# Altium footprint library Connectors_2mm.PcbLib: 81 footprints (part 5 of 6)
Each footprint in its own frame and in the unit in brackets; x right, y up, seen from the top. Pads: shape width x height; smd on the part's side, far side on the other; paste and mask are expansions set on the pad; w line width, h text height; cw(c..) or ccw(c..) is an arc to the next point about the centre after c.
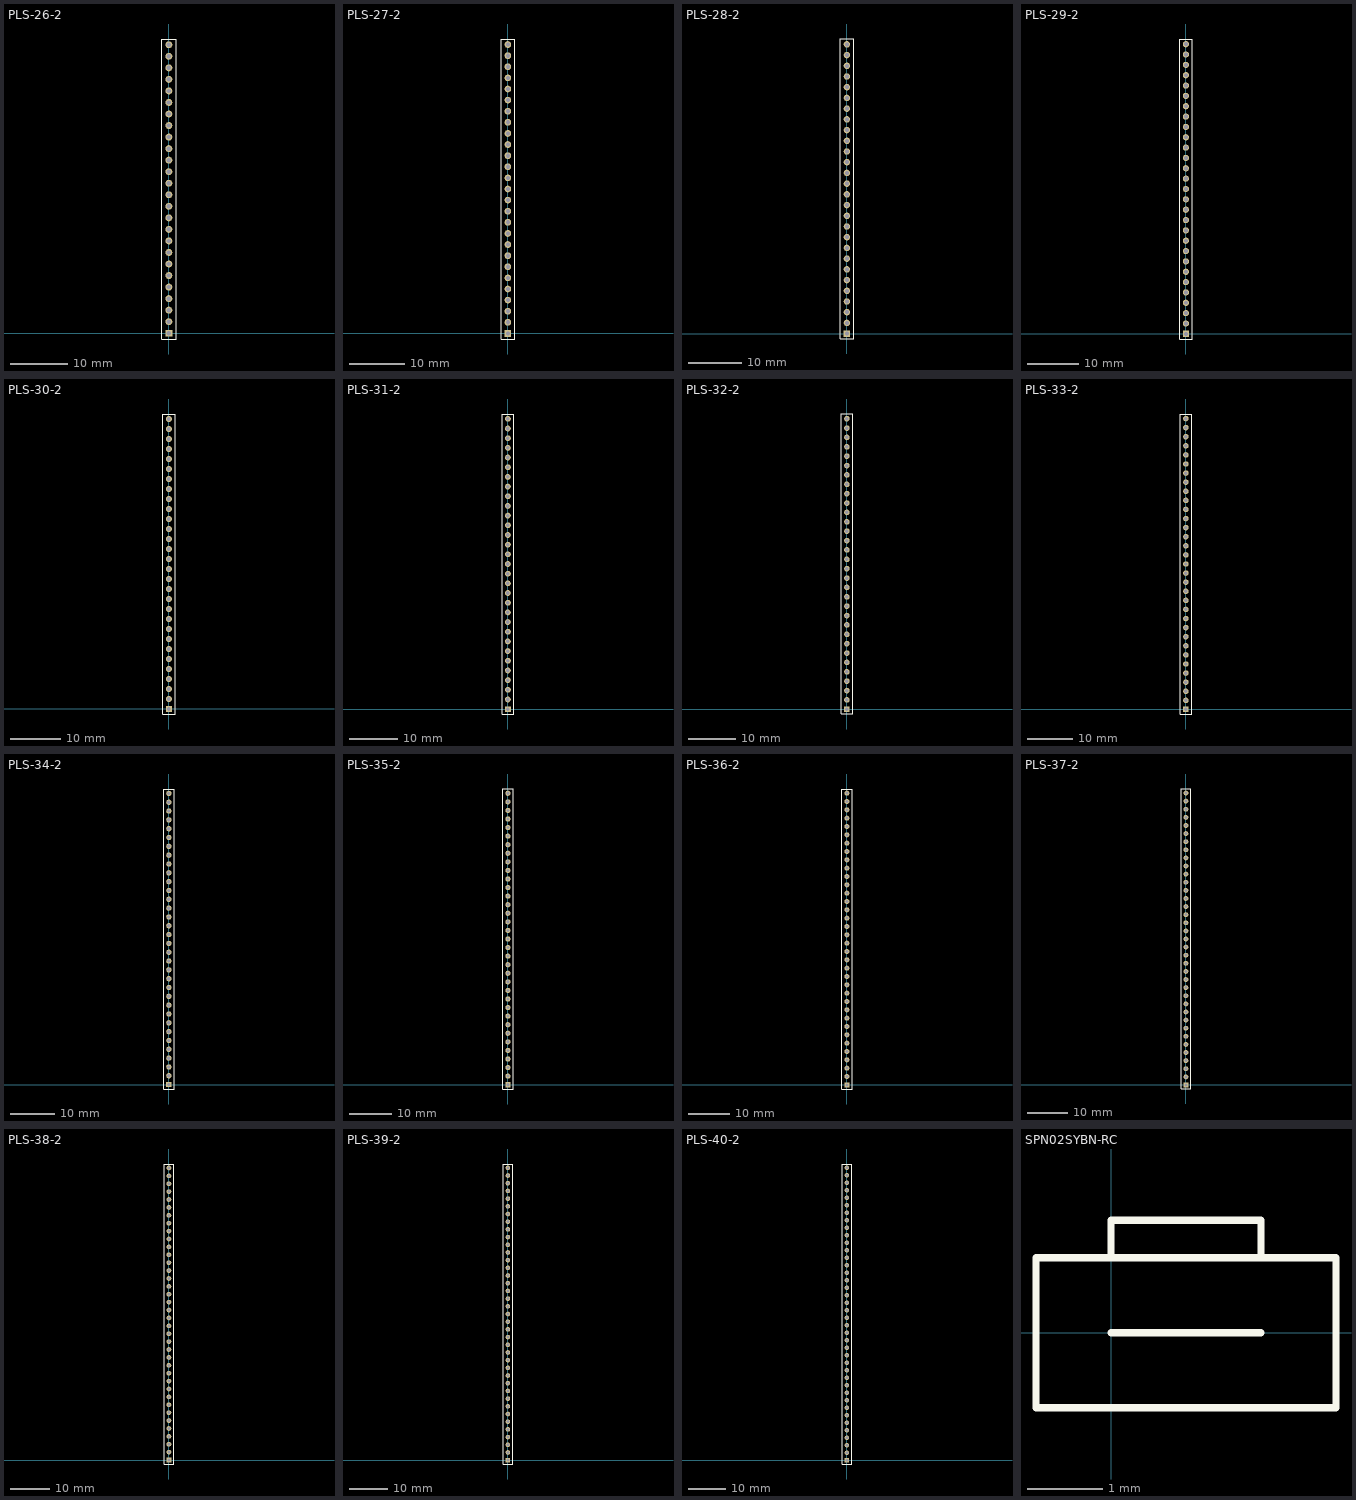
[diagram p4: the footprints below, top view; thin cyan lines are the x and y axes]

## PLS-26-2 [mm] "Connector; Header; 1x26 Position"
height 6
pads (26):
  rect 1.2x1.2 hole 0.75: 1(0,0)
  round 1.2 hole 0.75: 2(0,2) 3(0,4) 4(0,6) 5(0,8)
  round 1.2 hole 0.75 unplated: 6(0,10) 7(0,12) 8(0,14) 9(0,16) 10(0,18) 11(0,20) 12(0,22) 13(0,24) 14(0,26) 15(0,28) 16(0,30) 17(0,32) 18(0,34) 19(0,36) 20(0,38) 21(0,40) 22(0,42) 23(0,44) 24(0,46) 25(0,48) 26(0,50)
Top Overlay:
  lines w0.2: -1.2,-1 -1.2,51 1.25,51 1.25,-1 -1.2,-1
3D body "pls-2mm.stp": height 5.5, standoff -2.5, extent -1.2,49 1.2,51
3D body "pls-2mm.stp": height 5.5, standoff -2.5, extent -1.2,47 1.2,49
3D body "pls-2mm.stp": height 5.5, standoff -2.5, extent -1.2,45 1.2,47
3D body "pls-2mm.stp": height 5.5, standoff -2.5, extent -1.2,43 1.2,45
3D body "pls-2mm.stp": height 5.5, standoff -2.5, extent -1.2,41 1.2,43
3D body "pls-2mm.stp": height 5.5, standoff -2.5, extent -1.2,39 1.2,41
3D body "pls-2mm.stp": height 5.5, standoff -2.5, extent -1.2,37 1.2,39
3D body "pls-2mm.stp": height 5.5, standoff -2.5, extent -1.2,35 1.2,37
3D body "pls-2mm.stp": height 5.5, standoff -2.5, extent -1.2,33 1.2,35
3D body "pls-2mm.stp": height 5.5, standoff -2.5, extent -1.2,31 1.2,33
3D body "pls-2mm.stp": height 5.5, standoff -2.5, extent -1.2,29 1.2,31
3D body "pls-2mm.stp": height 5.5, standoff -2.5, extent -1.2,27 1.2,29
3D body "pls-2mm.stp": height 5.5, standoff -2.5, extent -1.2,25 1.2,27
3D body "pls-2mm.stp": height 5.5, standoff -2.5, extent -1.2,23 1.2,25
3D body "pls-2mm.stp": height 5.5, standoff -2.5, extent -1.2,21 1.2,23
3D body "pls-2mm.stp": height 5.5, standoff -2.5, extent -1.2,19 1.2,21
3D body "pls-2mm.stp": height 5.5, standoff -2.5, extent -1.2,17 1.2,19
3D body "pls-2mm.stp": height 5.5, standoff -2.5, extent -1.2,15 1.2,17
3D body "pls-2mm.stp": height 5.5, standoff -2.5, extent -1.2,13 1.2,15
3D body "pls-2mm.stp": height 5.5, standoff -2.5, extent -1.2,11 1.2,13
3D body "pls-2mm.stp": height 5.5, standoff -2.5, extent -1.2,9 1.2,11
3D body "pls-2mm.stp": height 5.5, standoff -2.5, extent -1.2,-1 1.2,1
3D body "pls-2mm.stp": height 5.5, standoff -2.5, extent -1.2,1 1.2,3
3D body "pls-2mm.stp": height 5.5, standoff -2.5, extent -1.2,3 1.2,5
3D body "pls-2mm.stp": height 5.5, standoff -2.5, extent -1.2,5 1.2,7
3D body "pls-2mm.stp": height 5.5, standoff -2.5, extent -1.2,7 1.2,9

## PLS-27-2 [mm] "Connector; Header; 1x27 Position"
height 6
pads (27):
  rect 1.2x1.2 hole 0.75: 1(0,0)
  round 1.2 hole 0.75: 2(0,2) 3(0,4) 4(0,6) 5(0,8)
  round 1.2 hole 0.75 unplated: 6(0,10) 7(0,12) 8(0,14) 9(0,16) 10(0,18) 11(0,20) 12(0,22) 13(0,24) 14(0,26) 15(0,28) 16(0,30) 17(0,32) 18(0,34) 19(0,36) 20(0,38) 21(0,40) 22(0,42) 23(0,44) 24(0,46) 25(0,48) 26(0,50) 27(0,52)
Top Overlay:
  lines w0.2: -1.2,-1 1.25,-1 1.25,53 -1.2,53 -1.2,-1
3D body "pls-2mm.stp": height 5.5, standoff -2.5, extent -1.2,7 1.2,9
3D body "pls-2mm.stp": height 5.5, standoff -2.5, extent -1.2,5 1.2,7
3D body "pls-2mm.stp": height 5.5, standoff -2.5, extent -1.2,3 1.2,5
3D body "pls-2mm.stp": height 5.5, standoff -2.5, extent -1.2,1 1.2,3
3D body "pls-2mm.stp": height 5.5, standoff -2.5, extent -1.2,-1 1.2,1
3D body "pls-2mm.stp": height 5.5, standoff -2.5, extent -1.2,9 1.2,11
3D body "pls-2mm.stp": height 5.5, standoff -2.5, extent -1.2,11 1.2,13
3D body "pls-2mm.stp": height 5.5, standoff -2.5, extent -1.2,13 1.2,15
3D body "pls-2mm.stp": height 5.5, standoff -2.5, extent -1.2,15 1.2,17
3D body "pls-2mm.stp": height 5.5, standoff -2.5, extent -1.2,17 1.2,19
3D body "pls-2mm.stp": height 5.5, standoff -2.5, extent -1.2,19 1.2,21
3D body "pls-2mm.stp": height 5.5, standoff -2.5, extent -1.2,21 1.2,23
3D body "pls-2mm.stp": height 5.5, standoff -2.5, extent -1.2,23 1.2,25
3D body "pls-2mm.stp": height 5.5, standoff -2.5, extent -1.2,25 1.2,27
3D body "pls-2mm.stp": height 5.5, standoff -2.5, extent -1.2,27 1.2,29
3D body "pls-2mm.stp": height 5.5, standoff -2.5, extent -1.2,29 1.2,31
3D body "pls-2mm.stp": height 5.5, standoff -2.5, extent -1.2,31 1.2,33
3D body "pls-2mm.stp": height 5.5, standoff -2.5, extent -1.2,33 1.2,35
3D body "pls-2mm.stp": height 5.5, standoff -2.5, extent -1.2,35 1.2,37
3D body "pls-2mm.stp": height 5.5, standoff -2.5, extent -1.2,37 1.2,39
3D body "pls-2mm.stp": height 5.5, standoff -2.5, extent -1.2,39 1.2,41
3D body "pls-2mm.stp": height 5.5, standoff -2.5, extent -1.2,41 1.2,43
3D body "pls-2mm.stp": height 5.5, standoff -2.5, extent -1.2,43 1.2,45
3D body "pls-2mm.stp": height 5.5, standoff -2.5, extent -1.2,45 1.2,47
3D body "pls-2mm.stp": height 5.5, standoff -2.5, extent -1.2,47 1.2,49
3D body "pls-2mm.stp": height 5.5, standoff -2.5, extent -1.2,49 1.2,51
3D body "pls-2mm.stp": height 5.5, standoff -2.5, extent -1.2,51 1.2,53

## PLS-28-2 [mm] "Connector; Header; 1x28 Position"
height 6
pads (28):
  rect 1.2x1.2 hole 0.75: 1(0,0)
  round 1.2 hole 0.75: 2(0,2) 3(0,4) 4(0,6) 5(0,8)
  round 1.2 hole 0.75 unplated: 6(0,10) 7(0,12) 8(0,14) 9(0,16) 10(0,18) 11(0,20) 12(0,22) 13(0,24) 14(0,26) 15(0,28) 16(0,30) 17(0,32) 18(0,34) 19(0,36) 20(0,38) 21(0,40) 22(0,42) 23(0,44) 24(0,46) 25(0,48) 26(0,50) 27(0,52) 28(0,54)
Top Overlay:
  lines w0.2: -1.2,-1 -1.2,55 1.25,55 1.25,-1 -1.2,-1
3D body "pls-2mm.stp": height 5.5, standoff -2.5, extent -1.2,53 1.2,55
3D body "pls-2mm.stp": height 5.5, standoff -2.5, extent -1.2,51 1.2,53
3D body "pls-2mm.stp": height 5.5, standoff -2.5, extent -1.2,49 1.2,51
3D body "pls-2mm.stp": height 5.5, standoff -2.5, extent -1.2,47 1.2,49
3D body "pls-2mm.stp": height 5.5, standoff -2.5, extent -1.2,45 1.2,47
3D body "pls-2mm.stp": height 5.5, standoff -2.5, extent -1.2,43 1.2,45
3D body "pls-2mm.stp": height 5.5, standoff -2.5, extent -1.2,41 1.2,43
3D body "pls-2mm.stp": height 5.5, standoff -2.5, extent -1.2,39 1.2,41
3D body "pls-2mm.stp": height 5.5, standoff -2.5, extent -1.2,37 1.2,39
3D body "pls-2mm.stp": height 5.5, standoff -2.5, extent -1.2,35 1.2,37
3D body "pls-2mm.stp": height 5.5, standoff -2.5, extent -1.2,33 1.2,35
3D body "pls-2mm.stp": height 5.5, standoff -2.5, extent -1.2,31 1.2,33
3D body "pls-2mm.stp": height 5.5, standoff -2.5, extent -1.2,29 1.2,31
3D body "pls-2mm.stp": height 5.5, standoff -2.5, extent -1.2,27 1.2,29
3D body "pls-2mm.stp": height 5.5, standoff -2.5, extent -1.2,25 1.2,27
3D body "pls-2mm.stp": height 5.5, standoff -2.5, extent -1.2,23 1.2,25
3D body "pls-2mm.stp": height 5.5, standoff -2.5, extent -1.2,21 1.2,23
3D body "pls-2mm.stp": height 5.5, standoff -2.5, extent -1.2,19 1.2,21
3D body "pls-2mm.stp": height 5.5, standoff -2.5, extent -1.2,17 1.2,19
3D body "pls-2mm.stp": height 5.5, standoff -2.5, extent -1.2,15 1.2,17
3D body "pls-2mm.stp": height 5.5, standoff -2.5, extent -1.2,13 1.2,15
3D body "pls-2mm.stp": height 5.5, standoff -2.5, extent -1.2,11 1.2,13
3D body "pls-2mm.stp": height 5.5, standoff -2.5, extent -1.2,9 1.2,11
3D body "pls-2mm.stp": height 5.5, standoff -2.5, extent -1.2,-1 1.2,1
3D body "pls-2mm.stp": height 5.5, standoff -2.5, extent -1.2,1 1.2,3
3D body "pls-2mm.stp": height 5.5, standoff -2.5, extent -1.2,3 1.2,5
3D body "pls-2mm.stp": height 5.5, standoff -2.5, extent -1.2,5 1.2,7
3D body "pls-2mm.stp": height 5.5, standoff -2.5, extent -1.2,7 1.2,9

## PLS-29-2 [mm] "Connector; Header; 1x29 Position"
height 6
pads (29):
  rect 1.2x1.2 hole 0.75: 1(0,0)
  round 1.2 hole 0.75: 2(0,2) 3(0,4) 4(0,6) 5(0,8)
  round 1.2 hole 0.75 unplated: 6(0,10) 7(0,12) 8(0,14) 9(0,16) 10(0,18) 11(0,20) 12(0,22) 13(0,24) 14(0,26) 15(0,28) 16(0,30) 17(0,32) 18(0,34) 19(0,36) 20(0,38) 21(0,40) 22(0,42) 23(0,44) 24(0,46) 25(0,48) 26(0,50) 27(0,52) 28(0,54) 29(0,56)
Top Overlay:
  lines w0.2: -1.2,-1 1.25,-1 1.25,57 -1.2,57 -1.2,-1
3D body "pls-2mm.stp": height 5.5, standoff -2.5, extent -1.2,7 1.2,9
3D body "pls-2mm.stp": height 5.5, standoff -2.5, extent -1.2,5 1.2,7
3D body "pls-2mm.stp": height 5.5, standoff -2.5, extent -1.2,3 1.2,5
3D body "pls-2mm.stp": height 5.5, standoff -2.5, extent -1.2,1 1.2,3
3D body "pls-2mm.stp": height 5.5, standoff -2.5, extent -1.2,-1 1.2,1
3D body "pls-2mm.stp": height 5.5, standoff -2.5, extent -1.2,9 1.2,11
3D body "pls-2mm.stp": height 5.5, standoff -2.5, extent -1.2,11 1.2,13
3D body "pls-2mm.stp": height 5.5, standoff -2.5, extent -1.2,13 1.2,15
3D body "pls-2mm.stp": height 5.5, standoff -2.5, extent -1.2,15 1.2,17
3D body "pls-2mm.stp": height 5.5, standoff -2.5, extent -1.2,17 1.2,19
3D body "pls-2mm.stp": height 5.5, standoff -2.5, extent -1.2,19 1.2,21
3D body "pls-2mm.stp": height 5.5, standoff -2.5, extent -1.2,21 1.2,23
3D body "pls-2mm.stp": height 5.5, standoff -2.5, extent -1.2,23 1.2,25
3D body "pls-2mm.stp": height 5.5, standoff -2.5, extent -1.2,25 1.2,27
3D body "pls-2mm.stp": height 5.5, standoff -2.5, extent -1.2,27 1.2,29
3D body "pls-2mm.stp": height 5.5, standoff -2.5, extent -1.2,29 1.2,31
3D body "pls-2mm.stp": height 5.5, standoff -2.5, extent -1.2,31 1.2,33
3D body "pls-2mm.stp": height 5.5, standoff -2.5, extent -1.2,33 1.2,35
3D body "pls-2mm.stp": height 5.5, standoff -2.5, extent -1.2,35 1.2,37
3D body "pls-2mm.stp": height 5.5, standoff -2.5, extent -1.2,37 1.2,39
3D body "pls-2mm.stp": height 5.5, standoff -2.5, extent -1.2,39 1.2,41
3D body "pls-2mm.stp": height 5.5, standoff -2.5, extent -1.2,41 1.2,43
3D body "pls-2mm.stp": height 5.5, standoff -2.5, extent -1.2,43 1.2,45
3D body "pls-2mm.stp": height 5.5, standoff -2.5, extent -1.2,45 1.2,47
3D body "pls-2mm.stp": height 5.5, standoff -2.5, extent -1.2,47 1.2,49
3D body "pls-2mm.stp": height 5.5, standoff -2.5, extent -1.2,49 1.2,51
3D body "pls-2mm.stp": height 5.5, standoff -2.5, extent -1.2,51 1.2,53
3D body "pls-2mm.stp": height 5.5, standoff -2.5, extent -1.2,53 1.2,55
3D body "pls-2mm.stp": height 5.5, standoff -2.5, extent -1.2,55 1.2,57

## PLS-30-2 [mm] "Connector; Header; 1x30 Position"
height 6
pads (30):
  rect 1.2x1.2 hole 0.75: 1(0,0)
  round 1.2 hole 0.75: 2(0,2) 3(0,4) 4(0,6) 5(0,8)
  round 1.2 hole 0.75 unplated: 6(0,10) 7(0,12) 8(0,14) 9(0,16) 10(0,18) 11(0,20) 12(0,22) 13(0,24) 14(0,26) 15(0,28) 16(0,30) 17(0,32) 18(0,34) 19(0,36) 20(0,38) 21(0,40) 22(0,42) 23(0,44) 24(0,46) 25(0,48) 26(0,50) 27(0,52) 28(0,54) 29(0,56) 30(0,58)
Top Overlay:
  lines w0.2: -1.2,-1 -1.2,59 1.25,59 1.25,-1 -1.2,-1
3D body "pls-2mm.stp": height 5.5, standoff -2.5, extent -1.2,57 1.2,59
3D body "pls-2mm.stp": height 5.5, standoff -2.5, extent -1.2,55 1.2,57
3D body "pls-2mm.stp": height 5.5, standoff -2.5, extent -1.2,53 1.2,55
3D body "pls-2mm.stp": height 5.5, standoff -2.5, extent -1.2,51 1.2,53
3D body "pls-2mm.stp": height 5.5, standoff -2.5, extent -1.2,49 1.2,51
3D body "pls-2mm.stp": height 5.5, standoff -2.5, extent -1.2,47 1.2,49
3D body "pls-2mm.stp": height 5.5, standoff -2.5, extent -1.2,45 1.2,47
3D body "pls-2mm.stp": height 5.5, standoff -2.5, extent -1.2,43 1.2,45
3D body "pls-2mm.stp": height 5.5, standoff -2.5, extent -1.2,41 1.2,43
3D body "pls-2mm.stp": height 5.5, standoff -2.5, extent -1.2,39 1.2,41
3D body "pls-2mm.stp": height 5.5, standoff -2.5, extent -1.2,37 1.2,39
3D body "pls-2mm.stp": height 5.5, standoff -2.5, extent -1.2,35 1.2,37
3D body "pls-2mm.stp": height 5.5, standoff -2.5, extent -1.2,33 1.2,35
3D body "pls-2mm.stp": height 5.5, standoff -2.5, extent -1.2,31 1.2,33
3D body "pls-2mm.stp": height 5.5, standoff -2.5, extent -1.2,29 1.2,31
3D body "pls-2mm.stp": height 5.5, standoff -2.5, extent -1.2,27 1.2,29
3D body "pls-2mm.stp": height 5.5, standoff -2.5, extent -1.2,25 1.2,27
3D body "pls-2mm.stp": height 5.5, standoff -2.5, extent -1.2,23 1.2,25
3D body "pls-2mm.stp": height 5.5, standoff -2.5, extent -1.2,21 1.2,23
3D body "pls-2mm.stp": height 5.5, standoff -2.5, extent -1.2,19 1.2,21
3D body "pls-2mm.stp": height 5.5, standoff -2.5, extent -1.2,17 1.2,19
3D body "pls-2mm.stp": height 5.5, standoff -2.5, extent -1.2,15 1.2,17
3D body "pls-2mm.stp": height 5.5, standoff -2.5, extent -1.2,13 1.2,15
3D body "pls-2mm.stp": height 5.5, standoff -2.5, extent -1.2,11 1.2,13
3D body "pls-2mm.stp": height 5.5, standoff -2.5, extent -1.2,9 1.2,11
3D body "pls-2mm.stp": height 5.5, standoff -2.5, extent -1.2,-1 1.2,1
3D body "pls-2mm.stp": height 5.5, standoff -2.5, extent -1.2,1 1.2,3
3D body "pls-2mm.stp": height 5.5, standoff -2.5, extent -1.2,3 1.2,5
3D body "pls-2mm.stp": height 5.5, standoff -2.5, extent -1.2,5 1.2,7
3D body "pls-2mm.stp": height 5.5, standoff -2.5, extent -1.2,7 1.2,9

## PLS-31-2 [mm] "Connector; Header; 1x31 Position"
height 6
pads (31):
  rect 1.2x1.2 hole 0.75: 1(0,0)
  round 1.2 hole 0.75: 2(0,2) 3(0,4) 4(0,6) 5(0,8)
  round 1.2 hole 0.75 unplated: 6(0,10) 7(0,12) 8(0,14) 9(0,16) 10(0,18) 11(0,20) 12(0,22) 13(0,24) 14(0,26) 15(0,28) 16(0,30) 17(0,32) 18(0,34) 19(0,36) 20(0,38) 21(0,40) 22(0,42) 23(0,44) 24(0,46) 25(0,48) 26(0,50) 27(0,52) 28(0,54) 29(0,56) 30(0,58) 31(0,60)
Top Overlay:
  lines w0.2: -1.2,-1 -1.2,61 1.25,61 1.25,-1 -1.2,-1
3D body "pls-2mm.stp": height 5.5, standoff -2.5, extent -1.2,59 1.2,61
3D body "pls-2mm.stp": height 5.5, standoff -2.5, extent -1.2,57 1.2,59
3D body "pls-2mm.stp": height 5.5, standoff -2.5, extent -1.2,55 1.2,57
3D body "pls-2mm.stp": height 5.5, standoff -2.5, extent -1.2,53 1.2,55
3D body "pls-2mm.stp": height 5.5, standoff -2.5, extent -1.2,51 1.2,53
3D body "pls-2mm.stp": height 5.5, standoff -2.5, extent -1.2,49 1.2,51
3D body "pls-2mm.stp": height 5.5, standoff -2.5, extent -1.2,47 1.2,49
3D body "pls-2mm.stp": height 5.5, standoff -2.5, extent -1.2,45 1.2,47
3D body "pls-2mm.stp": height 5.5, standoff -2.5, extent -1.2,43 1.2,45
3D body "pls-2mm.stp": height 5.5, standoff -2.5, extent -1.2,41 1.2,43
3D body "pls-2mm.stp": height 5.5, standoff -2.5, extent -1.2,39 1.2,41
3D body "pls-2mm.stp": height 5.5, standoff -2.5, extent -1.2,37 1.2,39
3D body "pls-2mm.stp": height 5.5, standoff -2.5, extent -1.2,35 1.2,37
3D body "pls-2mm.stp": height 5.5, standoff -2.5, extent -1.2,33 1.2,35
3D body "pls-2mm.stp": height 5.5, standoff -2.5, extent -1.2,31 1.2,33
3D body "pls-2mm.stp": height 5.5, standoff -2.5, extent -1.2,29 1.2,31
3D body "pls-2mm.stp": height 5.5, standoff -2.5, extent -1.2,27 1.2,29
3D body "pls-2mm.stp": height 5.5, standoff -2.5, extent -1.2,25 1.2,27
3D body "pls-2mm.stp": height 5.5, standoff -2.5, extent -1.2,23 1.2,25
3D body "pls-2mm.stp": height 5.5, standoff -2.5, extent -1.2,21 1.2,23
3D body "pls-2mm.stp": height 5.5, standoff -2.5, extent -1.2,19 1.2,21
3D body "pls-2mm.stp": height 5.5, standoff -2.5, extent -1.2,17 1.2,19
3D body "pls-2mm.stp": height 5.5, standoff -2.5, extent -1.2,15 1.2,17
3D body "pls-2mm.stp": height 5.5, standoff -2.5, extent -1.2,13 1.2,15
3D body "pls-2mm.stp": height 5.5, standoff -2.5, extent -1.2,11 1.2,13
3D body "pls-2mm.stp": height 5.5, standoff -2.5, extent -1.2,9 1.2,11
3D body "pls-2mm.stp": height 5.5, standoff -2.5, extent -1.2,-1 1.2,1
3D body "pls-2mm.stp": height 5.5, standoff -2.5, extent -1.2,1 1.2,3
3D body "pls-2mm.stp": height 5.5, standoff -2.5, extent -1.2,3 1.2,5
3D body "pls-2mm.stp": height 5.5, standoff -2.5, extent -1.2,5 1.2,7
3D body "pls-2mm.stp": height 5.5, standoff -2.5, extent -1.2,7 1.2,9

## PLS-32-2 [mm] "Connector; Header; 1x32 Position"
height 6
pads (32):
  rect 1.2x1.2 hole 0.75: 1(0,0)
  round 1.2 hole 0.75: 2(0,2) 3(0,4) 4(0,6) 5(0,8)
  round 1.2 hole 0.75 unplated: 6(0,10) 7(0,12) 8(0,14) 9(0,16) 10(0,18) 11(0,20) 12(0,22) 13(0,24) 14(0,26) 15(0,28) 16(0,30) 17(0,32) 18(0,34) 19(0,36) 20(0,38) 21(0,40) 22(0,42) 23(0,44) 24(0,46) 25(0,48) 26(0,50) 27(0,52) 28(0,54) 29(0,56) 30(0,58) 31(0,60) 32(0,62)
Top Overlay:
  lines w0.2: -1.2,-1 -1.2,63 1.25,63 1.25,-1 -1.2,-1
3D body "pls-2mm.stp": height 5.5, standoff -2.5, extent -1.2,61 1.2,63
3D body "pls-2mm.stp": height 5.5, standoff -2.5, extent -1.2,59 1.2,61
3D body "pls-2mm.stp": height 5.5, standoff -2.5, extent -1.2,57 1.2,59
3D body "pls-2mm.stp": height 5.5, standoff -2.5, extent -1.2,55 1.2,57
3D body "pls-2mm.stp": height 5.5, standoff -2.5, extent -1.2,53 1.2,55
3D body "pls-2mm.stp": height 5.5, standoff -2.5, extent -1.2,51 1.2,53
3D body "pls-2mm.stp": height 5.5, standoff -2.5, extent -1.2,49 1.2,51
3D body "pls-2mm.stp": height 5.5, standoff -2.5, extent -1.2,47 1.2,49
3D body "pls-2mm.stp": height 5.5, standoff -2.5, extent -1.2,45 1.2,47
3D body "pls-2mm.stp": height 5.5, standoff -2.5, extent -1.2,43 1.2,45
3D body "pls-2mm.stp": height 5.5, standoff -2.5, extent -1.2,41 1.2,43
3D body "pls-2mm.stp": height 5.5, standoff -2.5, extent -1.2,39 1.2,41
3D body "pls-2mm.stp": height 5.5, standoff -2.5, extent -1.2,37 1.2,39
3D body "pls-2mm.stp": height 5.5, standoff -2.5, extent -1.2,35 1.2,37
3D body "pls-2mm.stp": height 5.5, standoff -2.5, extent -1.2,33 1.2,35
3D body "pls-2mm.stp": height 5.5, standoff -2.5, extent -1.2,31 1.2,33
3D body "pls-2mm.stp": height 5.5, standoff -2.5, extent -1.2,29 1.2,31
3D body "pls-2mm.stp": height 5.5, standoff -2.5, extent -1.2,27 1.2,29
3D body "pls-2mm.stp": height 5.5, standoff -2.5, extent -1.2,25 1.2,27
3D body "pls-2mm.stp": height 5.5, standoff -2.5, extent -1.2,23 1.2,25
3D body "pls-2mm.stp": height 5.5, standoff -2.5, extent -1.2,21 1.2,23
3D body "pls-2mm.stp": height 5.5, standoff -2.5, extent -1.2,19 1.2,21
3D body "pls-2mm.stp": height 5.5, standoff -2.5, extent -1.2,17 1.2,19
3D body "pls-2mm.stp": height 5.5, standoff -2.5, extent -1.2,15 1.2,17
3D body "pls-2mm.stp": height 5.5, standoff -2.5, extent -1.2,13 1.2,15
3D body "pls-2mm.stp": height 5.5, standoff -2.5, extent -1.2,11 1.2,13
3D body "pls-2mm.stp": height 5.5, standoff -2.5, extent -1.2,9 1.2,11
3D body "pls-2mm.stp": height 5.5, standoff -2.5, extent -1.2,-1 1.2,1
3D body "pls-2mm.stp": height 5.5, standoff -2.5, extent -1.2,1 1.2,3
3D body "pls-2mm.stp": height 5.5, standoff -2.5, extent -1.2,3 1.2,5
3D body "pls-2mm.stp": height 5.5, standoff -2.5, extent -1.2,5 1.2,7
3D body "pls-2mm.stp": height 5.5, standoff -2.5, extent -1.2,7 1.2,9

## PLS-33-2 [mm] "Connector; Header; 1x33 Position"
height 6
pads (33):
  rect 1.2x1.2 hole 0.75: 1(0,0)
  round 1.2 hole 0.75: 2(0,2) 3(0,4) 4(0,6) 5(0,8)
  round 1.2 hole 0.75 unplated: 6(0,10) 7(0,12) 8(0,14) 9(0,16) 10(0,18) 11(0,20) 12(0,22) 13(0,24) 14(0,26) 15(0,28) 16(0,30) 17(0,32) 18(0,34) 19(0,36) 20(0,38) 21(0,40) 22(0,42) 23(0,44) 24(0,46) 25(0,48) 26(0,50) 27(0,52) 28(0,54) 29(0,56) 30(0,58) 31(0,60) 32(0,62) 33(0,64)
Top Overlay:
  lines w0.2: -1.2,-1 1.25,-1 1.25,65 -1.2,65 -1.2,-1
3D body "pls-2mm.stp": height 5.5, standoff -2.5, extent -1.2,7 1.2,9
3D body "pls-2mm.stp": height 5.5, standoff -2.5, extent -1.2,5 1.2,7
3D body "pls-2mm.stp": height 5.5, standoff -2.5, extent -1.2,3 1.2,5
3D body "pls-2mm.stp": height 5.5, standoff -2.5, extent -1.2,1 1.2,3
3D body "pls-2mm.stp": height 5.5, standoff -2.5, extent -1.2,-1 1.2,1
3D body "pls-2mm.stp": height 5.5, standoff -2.5, extent -1.2,9 1.2,11
3D body "pls-2mm.stp": height 5.5, standoff -2.5, extent -1.2,11 1.2,13
3D body "pls-2mm.stp": height 5.5, standoff -2.5, extent -1.2,13 1.2,15
3D body "pls-2mm.stp": height 5.5, standoff -2.5, extent -1.2,15 1.2,17
3D body "pls-2mm.stp": height 5.5, standoff -2.5, extent -1.2,17 1.2,19
3D body "pls-2mm.stp": height 5.5, standoff -2.5, extent -1.2,19 1.2,21
3D body "pls-2mm.stp": height 5.5, standoff -2.5, extent -1.2,21 1.2,23
3D body "pls-2mm.stp": height 5.5, standoff -2.5, extent -1.2,23 1.2,25
3D body "pls-2mm.stp": height 5.5, standoff -2.5, extent -1.2,25 1.2,27
3D body "pls-2mm.stp": height 5.5, standoff -2.5, extent -1.2,27 1.2,29
3D body "pls-2mm.stp": height 5.5, standoff -2.5, extent -1.2,29 1.2,31
3D body "pls-2mm.stp": height 5.5, standoff -2.5, extent -1.2,31 1.2,33
3D body "pls-2mm.stp": height 5.5, standoff -2.5, extent -1.2,33 1.2,35
3D body "pls-2mm.stp": height 5.5, standoff -2.5, extent -1.2,35 1.2,37
3D body "pls-2mm.stp": height 5.5, standoff -2.5, extent -1.2,37 1.2,39
3D body "pls-2mm.stp": height 5.5, standoff -2.5, extent -1.2,39 1.2,41
3D body "pls-2mm.stp": height 5.5, standoff -2.5, extent -1.2,41 1.2,43
3D body "pls-2mm.stp": height 5.5, standoff -2.5, extent -1.2,43 1.2,45
3D body "pls-2mm.stp": height 5.5, standoff -2.5, extent -1.2,45 1.2,47
3D body "pls-2mm.stp": height 5.5, standoff -2.5, extent -1.2,47 1.2,49
3D body "pls-2mm.stp": height 5.5, standoff -2.5, extent -1.2,49 1.2,51
3D body "pls-2mm.stp": height 5.5, standoff -2.5, extent -1.2,51 1.2,53
3D body "pls-2mm.stp": height 5.5, standoff -2.5, extent -1.2,53 1.2,55
3D body "pls-2mm.stp": height 5.5, standoff -2.5, extent -1.2,55 1.2,57
3D body "pls-2mm.stp": height 5.5, standoff -2.5, extent -1.2,57 1.2,59
3D body "pls-2mm.stp": height 5.5, standoff -2.5, extent -1.2,59 1.2,61
3D body "pls-2mm.stp": height 5.5, standoff -2.5, extent -1.2,61 1.2,63
3D body "pls-2mm.stp": height 5.5, standoff -2.5, extent -1.2,63 1.2,65

## PLS-34-2 [mm] "Connector; Header; 1x34 Position"
height 6
pads (34):
  rect 1.2x1.2 hole 0.75: 1(0,0)
  round 1.2 hole 0.75: 2(0,2) 3(0,4) 4(0,6) 5(0,8)
  round 1.2 hole 0.75 unplated: 6(0,10) 7(0,12) 8(0,14) 9(0,16) 10(0,18) 11(0,20) 12(0,22) 13(0,24) 14(0,26) 15(0,28) 16(0,30) 17(0,32) 18(0,34) 19(0,36) 20(0,38) 21(0,40) 22(0,42) 23(0,44) 24(0,46) 25(0,48) 26(0,50) 27(0,52) 28(0,54) 29(0,56) 30(0,58) 31(0,60) 32(0,62) 33(0,64) 34(0,66)
Top Overlay:
  lines w0.2: -1.2,-1 1.25,-1 1.25,67 -1.2,67 -1.2,-1
3D body "pls-2mm.stp": height 5.5, standoff -2.5, extent -1.2,7 1.2,9
3D body "pls-2mm.stp": height 5.5, standoff -2.5, extent -1.2,5 1.2,7
3D body "pls-2mm.stp": height 5.5, standoff -2.5, extent -1.2,3 1.2,5
3D body "pls-2mm.stp": height 5.5, standoff -2.5, extent -1.2,1 1.2,3
3D body "pls-2mm.stp": height 5.5, standoff -2.5, extent -1.2,-1 1.2,1
3D body "pls-2mm.stp": height 5.5, standoff -2.5, extent -1.2,9 1.2,11
3D body "pls-2mm.stp": height 5.5, standoff -2.5, extent -1.2,11 1.2,13
3D body "pls-2mm.stp": height 5.5, standoff -2.5, extent -1.2,13 1.2,15
3D body "pls-2mm.stp": height 5.5, standoff -2.5, extent -1.2,15 1.2,17
3D body "pls-2mm.stp": height 5.5, standoff -2.5, extent -1.2,17 1.2,19
3D body "pls-2mm.stp": height 5.5, standoff -2.5, extent -1.2,19 1.2,21
3D body "pls-2mm.stp": height 5.5, standoff -2.5, extent -1.2,21 1.2,23
3D body "pls-2mm.stp": height 5.5, standoff -2.5, extent -1.2,23 1.2,25
3D body "pls-2mm.stp": height 5.5, standoff -2.5, extent -1.2,25 1.2,27
3D body "pls-2mm.stp": height 5.5, standoff -2.5, extent -1.2,27 1.2,29
3D body "pls-2mm.stp": height 5.5, standoff -2.5, extent -1.2,29 1.2,31
3D body "pls-2mm.stp": height 5.5, standoff -2.5, extent -1.2,31 1.2,33
3D body "pls-2mm.stp": height 5.5, standoff -2.5, extent -1.2,33 1.2,35
3D body "pls-2mm.stp": height 5.5, standoff -2.5, extent -1.2,35 1.2,37
3D body "pls-2mm.stp": height 5.5, standoff -2.5, extent -1.2,37 1.2,39
3D body "pls-2mm.stp": height 5.5, standoff -2.5, extent -1.2,39 1.2,41
3D body "pls-2mm.stp": height 5.5, standoff -2.5, extent -1.2,41 1.2,43
3D body "pls-2mm.stp": height 5.5, standoff -2.5, extent -1.2,43 1.2,45
3D body "pls-2mm.stp": height 5.5, standoff -2.5, extent -1.2,45 1.2,47
3D body "pls-2mm.stp": height 5.5, standoff -2.5, extent -1.2,47 1.2,49
3D body "pls-2mm.stp": height 5.5, standoff -2.5, extent -1.2,49 1.2,51
3D body "pls-2mm.stp": height 5.5, standoff -2.5, extent -1.2,51 1.2,53
3D body "pls-2mm.stp": height 5.5, standoff -2.5, extent -1.2,53 1.2,55
3D body "pls-2mm.stp": height 5.5, standoff -2.5, extent -1.2,55 1.2,57
3D body "pls-2mm.stp": height 5.5, standoff -2.5, extent -1.2,57 1.2,59
3D body "pls-2mm.stp": height 5.5, standoff -2.5, extent -1.2,59 1.2,61
3D body "pls-2mm.stp": height 5.5, standoff -2.5, extent -1.2,61 1.2,63
3D body "pls-2mm.stp": height 5.5, standoff -2.5, extent -1.2,63 1.2,65
3D body "pls-2mm.stp": height 5.5, standoff -2.5, extent -1.2,65 1.2,67

## PLS-35-2 [mm] "Connector; Header; 1x35 Position"
height 6
pads (35):
  rect 1.2x1.2 hole 0.75: 1(0,0)
  round 1.2 hole 0.75: 2(0,2) 3(0,4) 4(0,6) 5(0,8)
  round 1.2 hole 0.75 unplated: 6(0,10) 7(0,12) 8(0,14) 9(0,16) 10(0,18) 11(0,20) 12(0,22) 13(0,24) 14(0,26) 15(0,28) 16(0,30) 17(0,32) 18(0,34) 19(0,36) 20(0,38) 21(0,40) 22(0,42) 23(0,44) 24(0,46) 25(0,48) 26(0,50) 27(0,52) 28(0,54) 29(0,56) 30(0,58) 31(0,60) 32(0,62) 33(0,64) 34(0,66) 35(0,68)
Top Overlay:
  lines w0.2: -1.2,-1 -1.2,69 1.25,69 1.25,-1 -1.2,-1
3D body "pls-2mm.stp": height 5.5, standoff -2.5, extent -1.2,67 1.2,69
3D body "pls-2mm.stp": height 5.5, standoff -2.5, extent -1.2,65 1.2,67
3D body "pls-2mm.stp": height 5.5, standoff -2.5, extent -1.2,63 1.2,65
3D body "pls-2mm.stp": height 5.5, standoff -2.5, extent -1.2,61 1.2,63
3D body "pls-2mm.stp": height 5.5, standoff -2.5, extent -1.2,59 1.2,61
3D body "pls-2mm.stp": height 5.5, standoff -2.5, extent -1.2,57 1.2,59
3D body "pls-2mm.stp": height 5.5, standoff -2.5, extent -1.2,55 1.2,57
3D body "pls-2mm.stp": height 5.5, standoff -2.5, extent -1.2,53 1.2,55
3D body "pls-2mm.stp": height 5.5, standoff -2.5, extent -1.2,51 1.2,53
3D body "pls-2mm.stp": height 5.5, standoff -2.5, extent -1.2,49 1.2,51
3D body "pls-2mm.stp": height 5.5, standoff -2.5, extent -1.2,47 1.2,49
3D body "pls-2mm.stp": height 5.5, standoff -2.5, extent -1.2,45 1.2,47
3D body "pls-2mm.stp": height 5.5, standoff -2.5, extent -1.2,43 1.2,45
3D body "pls-2mm.stp": height 5.5, standoff -2.5, extent -1.2,41 1.2,43
3D body "pls-2mm.stp": height 5.5, standoff -2.5, extent -1.2,39 1.2,41
3D body "pls-2mm.stp": height 5.5, standoff -2.5, extent -1.2,37 1.2,39
3D body "pls-2mm.stp": height 5.5, standoff -2.5, extent -1.2,35 1.2,37
3D body "pls-2mm.stp": height 5.5, standoff -2.5, extent -1.2,33 1.2,35
3D body "pls-2mm.stp": height 5.5, standoff -2.5, extent -1.2,31 1.2,33
3D body "pls-2mm.stp": height 5.5, standoff -2.5, extent -1.2,29 1.2,31
3D body "pls-2mm.stp": height 5.5, standoff -2.5, extent -1.2,27 1.2,29
3D body "pls-2mm.stp": height 5.5, standoff -2.5, extent -1.2,25 1.2,27
3D body "pls-2mm.stp": height 5.5, standoff -2.5, extent -1.2,23 1.2,25
3D body "pls-2mm.stp": height 5.5, standoff -2.5, extent -1.2,21 1.2,23
3D body "pls-2mm.stp": height 5.5, standoff -2.5, extent -1.2,19 1.2,21
3D body "pls-2mm.stp": height 5.5, standoff -2.5, extent -1.2,17 1.2,19
3D body "pls-2mm.stp": height 5.5, standoff -2.5, extent -1.2,15 1.2,17
3D body "pls-2mm.stp": height 5.5, standoff -2.5, extent -1.2,13 1.2,15
3D body "pls-2mm.stp": height 5.5, standoff -2.5, extent -1.2,11 1.2,13
3D body "pls-2mm.stp": height 5.5, standoff -2.5, extent -1.2,9 1.2,11
3D body "pls-2mm.stp": height 5.5, standoff -2.5, extent -1.2,-1 1.2,1
3D body "pls-2mm.stp": height 5.5, standoff -2.5, extent -1.2,1 1.2,3
3D body "pls-2mm.stp": height 5.5, standoff -2.5, extent -1.2,3 1.2,5
3D body "pls-2mm.stp": height 5.5, standoff -2.5, extent -1.2,5 1.2,7
3D body "pls-2mm.stp": height 5.5, standoff -2.5, extent -1.2,7 1.2,9

## PLS-36-2 [mm] "Connector; Header; 1x36 Position"
height 6
pads (36):
  rect 1.2x1.2 hole 0.75: 1(0,0)
  round 1.2 hole 0.75: 2(0,2) 3(0,4) 4(0,6) 5(0,8)
  round 1.2 hole 0.75 unplated: 6(0,10) 7(0,12) 8(0,14) 9(0,16) 10(0,18) 11(0,20) 12(0,22) 13(0,24) 14(0,26) 15(0,28) 16(0,30) 17(0,32) 18(0,34) 19(0,36) 20(0,38) 21(0,40) 22(0,42) 23(0,44) 24(0,46) 25(0,48) 26(0,50) 27(0,52) 28(0,54) 29(0,56) 30(0,58) 31(0,60) 32(0,62) 33(0,64) 34(0,66) 35(0,68) 36(0,70)
Top Overlay:
  lines w0.2: -1.2,-1 1.25,-1 1.25,71 -1.2,71 -1.2,-1
3D body "pls-2mm.stp": height 5.5, standoff -2.5, extent -1.2,7 1.2,9
3D body "pls-2mm.stp": height 5.5, standoff -2.5, extent -1.2,5 1.2,7
3D body "pls-2mm.stp": height 5.5, standoff -2.5, extent -1.2,3 1.2,5
3D body "pls-2mm.stp": height 5.5, standoff -2.5, extent -1.2,1 1.2,3
3D body "pls-2mm.stp": height 5.5, standoff -2.5, extent -1.2,-1 1.2,1
3D body "pls-2mm.stp": height 5.5, standoff -2.5, extent -1.2,9 1.2,11
3D body "pls-2mm.stp": height 5.5, standoff -2.5, extent -1.2,11 1.2,13
3D body "pls-2mm.stp": height 5.5, standoff -2.5, extent -1.2,13 1.2,15
3D body "pls-2mm.stp": height 5.5, standoff -2.5, extent -1.2,15 1.2,17
3D body "pls-2mm.stp": height 5.5, standoff -2.5, extent -1.2,17 1.2,19
3D body "pls-2mm.stp": height 5.5, standoff -2.5, extent -1.2,19 1.2,21
3D body "pls-2mm.stp": height 5.5, standoff -2.5, extent -1.2,21 1.2,23
3D body "pls-2mm.stp": height 5.5, standoff -2.5, extent -1.2,23 1.2,25
3D body "pls-2mm.stp": height 5.5, standoff -2.5, extent -1.2,25 1.2,27
3D body "pls-2mm.stp": height 5.5, standoff -2.5, extent -1.2,27 1.2,29
3D body "pls-2mm.stp": height 5.5, standoff -2.5, extent -1.2,29 1.2,31
3D body "pls-2mm.stp": height 5.5, standoff -2.5, extent -1.2,31 1.2,33
3D body "pls-2mm.stp": height 5.5, standoff -2.5, extent -1.2,33 1.2,35
3D body "pls-2mm.stp": height 5.5, standoff -2.5, extent -1.2,35 1.2,37
3D body "pls-2mm.stp": height 5.5, standoff -2.5, extent -1.2,37 1.2,39
3D body "pls-2mm.stp": height 5.5, standoff -2.5, extent -1.2,39 1.2,41
3D body "pls-2mm.stp": height 5.5, standoff -2.5, extent -1.2,41 1.2,43
3D body "pls-2mm.stp": height 5.5, standoff -2.5, extent -1.2,43 1.2,45
3D body "pls-2mm.stp": height 5.5, standoff -2.5, extent -1.2,45 1.2,47
3D body "pls-2mm.stp": height 5.5, standoff -2.5, extent -1.2,47 1.2,49
3D body "pls-2mm.stp": height 5.5, standoff -2.5, extent -1.2,49 1.2,51
3D body "pls-2mm.stp": height 5.5, standoff -2.5, extent -1.2,51 1.2,53
3D body "pls-2mm.stp": height 5.5, standoff -2.5, extent -1.2,53 1.2,55
3D body "pls-2mm.stp": height 5.5, standoff -2.5, extent -1.2,55 1.2,57
3D body "pls-2mm.stp": height 5.5, standoff -2.5, extent -1.2,57 1.2,59
3D body "pls-2mm.stp": height 5.5, standoff -2.5, extent -1.2,59 1.2,61
3D body "pls-2mm.stp": height 5.5, standoff -2.5, extent -1.2,61 1.2,63
3D body "pls-2mm.stp": height 5.5, standoff -2.5, extent -1.2,63 1.2,65
3D body "pls-2mm.stp": height 5.5, standoff -2.5, extent -1.2,65 1.2,67
3D body "pls-2mm.stp": height 5.5, standoff -2.5, extent -1.2,67 1.2,69
3D body "pls-2mm.stp": height 5.5, standoff -2.5, extent -1.2,69 1.2,71

## PLS-37-2 [mm] "Connector; Header; 1x37 Position"
height 6
pads (37):
  rect 1.2x1.2 hole 0.75: 1(0,0)
  round 1.2 hole 0.75: 2(0,2) 3(0,4) 4(0,6) 5(0,8)
  round 1.2 hole 0.75 unplated: 6(0,10) 7(0,12) 8(0,14) 9(0,16) 10(0,18) 11(0,20) 12(0,22) 13(0,24) 14(0,26) 15(0,28) 16(0,30) 17(0,32) 18(0,34) 19(0,36) 20(0,38) 21(0,40) 22(0,42) 23(0,44) 24(0,46) 25(0,48) 26(0,50) 27(0,52) 28(0,54) 29(0,56) 30(0,58) 31(0,60) 32(0,62) 33(0,64) 34(0,66) 35(0,68) 36(0,70) 37(0,72)
Top Overlay:
  lines w0.2: -1.2,-1 1.25,-1 1.25,73 -1.2,73 -1.2,-1
3D body "pls-2mm.stp": height 5.5, standoff -2.5, extent -1.2,7 1.2,9
3D body "pls-2mm.stp": height 5.5, standoff -2.5, extent -1.2,5 1.2,7
3D body "pls-2mm.stp": height 5.5, standoff -2.5, extent -1.2,3 1.2,5
3D body "pls-2mm.stp": height 5.5, standoff -2.5, extent -1.2,1 1.2,3
3D body "pls-2mm.stp": height 5.5, standoff -2.5, extent -1.2,-1 1.2,1
3D body "pls-2mm.stp": height 5.5, standoff -2.5, extent -1.2,9 1.2,11
3D body "pls-2mm.stp": height 5.5, standoff -2.5, extent -1.2,11 1.2,13
3D body "pls-2mm.stp": height 5.5, standoff -2.5, extent -1.2,13 1.2,15
3D body "pls-2mm.stp": height 5.5, standoff -2.5, extent -1.2,15 1.2,17
3D body "pls-2mm.stp": height 5.5, standoff -2.5, extent -1.2,17 1.2,19
3D body "pls-2mm.stp": height 5.5, standoff -2.5, extent -1.2,19 1.2,21
3D body "pls-2mm.stp": height 5.5, standoff -2.5, extent -1.2,21 1.2,23
3D body "pls-2mm.stp": height 5.5, standoff -2.5, extent -1.2,23 1.2,25
3D body "pls-2mm.stp": height 5.5, standoff -2.5, extent -1.2,25 1.2,27
3D body "pls-2mm.stp": height 5.5, standoff -2.5, extent -1.2,27 1.2,29
3D body "pls-2mm.stp": height 5.5, standoff -2.5, extent -1.2,29 1.2,31
3D body "pls-2mm.stp": height 5.5, standoff -2.5, extent -1.2,31 1.2,33
3D body "pls-2mm.stp": height 5.5, standoff -2.5, extent -1.2,33 1.2,35
3D body "pls-2mm.stp": height 5.5, standoff -2.5, extent -1.2,35 1.2,37
3D body "pls-2mm.stp": height 5.5, standoff -2.5, extent -1.2,37 1.2,39
3D body "pls-2mm.stp": height 5.5, standoff -2.5, extent -1.2,39 1.2,41
3D body "pls-2mm.stp": height 5.5, standoff -2.5, extent -1.2,41 1.2,43
3D body "pls-2mm.stp": height 5.5, standoff -2.5, extent -1.2,43 1.2,45
3D body "pls-2mm.stp": height 5.5, standoff -2.5, extent -1.2,45 1.2,47
3D body "pls-2mm.stp": height 5.5, standoff -2.5, extent -1.2,47 1.2,49
3D body "pls-2mm.stp": height 5.5, standoff -2.5, extent -1.2,49 1.2,51
3D body "pls-2mm.stp": height 5.5, standoff -2.5, extent -1.2,51 1.2,53
3D body "pls-2mm.stp": height 5.5, standoff -2.5, extent -1.2,53 1.2,55
3D body "pls-2mm.stp": height 5.5, standoff -2.5, extent -1.2,55 1.2,57
3D body "pls-2mm.stp": height 5.5, standoff -2.5, extent -1.2,57 1.2,59
3D body "pls-2mm.stp": height 5.5, standoff -2.5, extent -1.2,59 1.2,61
3D body "pls-2mm.stp": height 5.5, standoff -2.5, extent -1.2,61 1.2,63
3D body "pls-2mm.stp": height 5.5, standoff -2.5, extent -1.2,63 1.2,65
3D body "pls-2mm.stp": height 5.5, standoff -2.5, extent -1.2,65 1.2,67
3D body "pls-2mm.stp": height 5.5, standoff -2.5, extent -1.2,67 1.2,69
3D body "pls-2mm.stp": height 5.5, standoff -2.5, extent -1.2,69 1.2,71
3D body "pls-2mm.stp": height 5.5, standoff -2.5, extent -1.2,71 1.2,73

## PLS-38-2 [mm] "Connector; Header; 1x38 Position"
height 6
pads (38):
  rect 1.2x1.2 hole 0.75: 1(0,0)
  round 1.2 hole 0.75: 2(0,2) 3(0,4) 4(0,6) 5(0,8)
  round 1.2 hole 0.75 unplated: 6(0,10) 7(0,12) 8(0,14) 9(0,16) 10(0,18) 11(0,20) 12(0,22) 13(0,24) 14(0,26) 15(0,28) 16(0,30) 17(0,32) 18(0,34) 19(0,36) 20(0,38) 21(0,40) 22(0,42) 23(0,44) 24(0,46) 25(0,48) 26(0,50) 27(0,52) 28(0,54) 29(0,56) 30(0,58) 31(0,60) 32(0,62) 33(0,64) 34(0,66) 35(0,68) 36(0,70) 37(0,72) 38(0,74)
Top Overlay:
  lines w0.2: -1.2,-1 -1.2,75 1.25,75 1.25,-1 -1.2,-1
3D body "pls-2mm.stp": height 5.5, standoff -2.5, extent -1.2,73 1.2,75
3D body "pls-2mm.stp": height 5.5, standoff -2.5, extent -1.2,71 1.2,73
3D body "pls-2mm.stp": height 5.5, standoff -2.5, extent -1.2,69 1.2,71
3D body "pls-2mm.stp": height 5.5, standoff -2.5, extent -1.2,67 1.2,69
3D body "pls-2mm.stp": height 5.5, standoff -2.5, extent -1.2,65 1.2,67
3D body "pls-2mm.stp": height 5.5, standoff -2.5, extent -1.2,63 1.2,65
3D body "pls-2mm.stp": height 5.5, standoff -2.5, extent -1.2,61 1.2,63
3D body "pls-2mm.stp": height 5.5, standoff -2.5, extent -1.2,59 1.2,61
3D body "pls-2mm.stp": height 5.5, standoff -2.5, extent -1.2,57 1.2,59
3D body "pls-2mm.stp": height 5.5, standoff -2.5, extent -1.2,55 1.2,57
3D body "pls-2mm.stp": height 5.5, standoff -2.5, extent -1.2,53 1.2,55
3D body "pls-2mm.stp": height 5.5, standoff -2.5, extent -1.2,51 1.2,53
3D body "pls-2mm.stp": height 5.5, standoff -2.5, extent -1.2,49 1.2,51
3D body "pls-2mm.stp": height 5.5, standoff -2.5, extent -1.2,47 1.2,49
3D body "pls-2mm.stp": height 5.5, standoff -2.5, extent -1.2,45 1.2,47
3D body "pls-2mm.stp": height 5.5, standoff -2.5, extent -1.2,43 1.2,45
3D body "pls-2mm.stp": height 5.5, standoff -2.5, extent -1.2,41 1.2,43
3D body "pls-2mm.stp": height 5.5, standoff -2.5, extent -1.2,39 1.2,41
3D body "pls-2mm.stp": height 5.5, standoff -2.5, extent -1.2,37 1.2,39
3D body "pls-2mm.stp": height 5.5, standoff -2.5, extent -1.2,35 1.2,37
3D body "pls-2mm.stp": height 5.5, standoff -2.5, extent -1.2,33 1.2,35
3D body "pls-2mm.stp": height 5.5, standoff -2.5, extent -1.2,31 1.2,33
3D body "pls-2mm.stp": height 5.5, standoff -2.5, extent -1.2,29 1.2,31
3D body "pls-2mm.stp": height 5.5, standoff -2.5, extent -1.2,27 1.2,29
3D body "pls-2mm.stp": height 5.5, standoff -2.5, extent -1.2,25 1.2,27
3D body "pls-2mm.stp": height 5.5, standoff -2.5, extent -1.2,23 1.2,25
3D body "pls-2mm.stp": height 5.5, standoff -2.5, extent -1.2,21 1.2,23
3D body "pls-2mm.stp": height 5.5, standoff -2.5, extent -1.2,19 1.2,21
3D body "pls-2mm.stp": height 5.5, standoff -2.5, extent -1.2,17 1.2,19
3D body "pls-2mm.stp": height 5.5, standoff -2.5, extent -1.2,15 1.2,17
3D body "pls-2mm.stp": height 5.5, standoff -2.5, extent -1.2,13 1.2,15
3D body "pls-2mm.stp": height 5.5, standoff -2.5, extent -1.2,11 1.2,13
3D body "pls-2mm.stp": height 5.5, standoff -2.5, extent -1.2,9 1.2,11
3D body "pls-2mm.stp": height 5.5, standoff -2.5, extent -1.2,-1 1.2,1
3D body "pls-2mm.stp": height 5.5, standoff -2.5, extent -1.2,1 1.2,3
3D body "pls-2mm.stp": height 5.5, standoff -2.5, extent -1.2,3 1.2,5
3D body "pls-2mm.stp": height 5.5, standoff -2.5, extent -1.2,5 1.2,7
3D body "pls-2mm.stp": height 5.5, standoff -2.5, extent -1.2,7 1.2,9

## PLS-39-2 [mm] "Connector; Header; 1x39 Position"
height 6
pads (39):
  rect 1.2x1.2 hole 0.75: 1(0,0)
  round 1.2 hole 0.75: 2(0,2) 3(0,4) 4(0,6) 5(0,8)
  round 1.2 hole 0.75 unplated: 6(0,10) 7(0,12) 8(0,14) 9(0,16) 10(0,18) 11(0,20) 12(0,22) 13(0,24) 14(0,26) 15(0,28) 16(0,30) 17(0,32) 18(0,34) 19(0,36) 20(0,38) 21(0,40) 22(0,42) 23(0,44) 24(0,46) 25(0,48) 26(0,50) 27(0,52) 28(0,54) 29(0,56) 30(0,58) 31(0,60) 32(0,62) 33(0,64) 34(0,66) 35(0,68) 36(0,70) 37(0,72) 38(0,74) 39(0,76)
Top Overlay:
  lines w0.2: -1.2,-1 1.25,-1 1.25,77 -1.2,77 -1.2,-1
3D body "pls-2mm.stp": height 5.5, standoff -2.5, extent -1.2,7 1.2,9
3D body "pls-2mm.stp": height 5.5, standoff -2.5, extent -1.2,5 1.2,7
3D body "pls-2mm.stp": height 5.5, standoff -2.5, extent -1.2,3 1.2,5
3D body "pls-2mm.stp": height 5.5, standoff -2.5, extent -1.2,1 1.2,3
3D body "pls-2mm.stp": height 5.5, standoff -2.5, extent -1.2,-1 1.2,1
3D body "pls-2mm.stp": height 5.5, standoff -2.5, extent -1.2,9 1.2,11
3D body "pls-2mm.stp": height 5.5, standoff -2.5, extent -1.2,11 1.2,13
3D body "pls-2mm.stp": height 5.5, standoff -2.5, extent -1.2,13 1.2,15
3D body "pls-2mm.stp": height 5.5, standoff -2.5, extent -1.2,15 1.2,17
3D body "pls-2mm.stp": height 5.5, standoff -2.5, extent -1.2,17 1.2,19
3D body "pls-2mm.stp": height 5.5, standoff -2.5, extent -1.2,19 1.2,21
3D body "pls-2mm.stp": height 5.5, standoff -2.5, extent -1.2,21 1.2,23
3D body "pls-2mm.stp": height 5.5, standoff -2.5, extent -1.2,23 1.2,25
3D body "pls-2mm.stp": height 5.5, standoff -2.5, extent -1.2,25 1.2,27
3D body "pls-2mm.stp": height 5.5, standoff -2.5, extent -1.2,27 1.2,29
3D body "pls-2mm.stp": height 5.5, standoff -2.5, extent -1.2,29 1.2,31
3D body "pls-2mm.stp": height 5.5, standoff -2.5, extent -1.2,31 1.2,33
3D body "pls-2mm.stp": height 5.5, standoff -2.5, extent -1.2,33 1.2,35
3D body "pls-2mm.stp": height 5.5, standoff -2.5, extent -1.2,35 1.2,37
3D body "pls-2mm.stp": height 5.5, standoff -2.5, extent -1.2,37 1.2,39
3D body "pls-2mm.stp": height 5.5, standoff -2.5, extent -1.2,39 1.2,41
3D body "pls-2mm.stp": height 5.5, standoff -2.5, extent -1.2,41 1.2,43
3D body "pls-2mm.stp": height 5.5, standoff -2.5, extent -1.2,43 1.2,45
3D body "pls-2mm.stp": height 5.5, standoff -2.5, extent -1.2,45 1.2,47
3D body "pls-2mm.stp": height 5.5, standoff -2.5, extent -1.2,47 1.2,49
3D body "pls-2mm.stp": height 5.5, standoff -2.5, extent -1.2,49 1.2,51
3D body "pls-2mm.stp": height 5.5, standoff -2.5, extent -1.2,51 1.2,53
3D body "pls-2mm.stp": height 5.5, standoff -2.5, extent -1.2,53 1.2,55
3D body "pls-2mm.stp": height 5.5, standoff -2.5, extent -1.2,55 1.2,57
3D body "pls-2mm.stp": height 5.5, standoff -2.5, extent -1.2,57 1.2,59
3D body "pls-2mm.stp": height 5.5, standoff -2.5, extent -1.2,59 1.2,61
3D body "pls-2mm.stp": height 5.5, standoff -2.5, extent -1.2,61 1.2,63
3D body "pls-2mm.stp": height 5.5, standoff -2.5, extent -1.2,63 1.2,65
3D body "pls-2mm.stp": height 5.5, standoff -2.5, extent -1.2,65 1.2,67
3D body "pls-2mm.stp": height 5.5, standoff -2.5, extent -1.2,67 1.2,69
3D body "pls-2mm.stp": height 5.5, standoff -2.5, extent -1.2,69 1.2,71
3D body "pls-2mm.stp": height 5.5, standoff -2.5, extent -1.2,71 1.2,73
3D body "pls-2mm.stp": height 5.5, standoff -2.5, extent -1.2,73 1.2,75
3D body "pls-2mm.stp": height 5.5, standoff -2.5, extent -1.2,75 1.2,77

## PLS-40-2 [mm] "Connector; Header; 1x40 Position"
height 6
pads (40):
  rect 1.2x1.2 hole 0.75: 1(0,0)
  round 1.2 hole 0.75: 2(0,2) 3(0,4) 4(0,6) 5(0,8)
  round 1.2 hole 0.75 unplated: 6(0,10) 7(0,12) 8(0,14) 9(0,16) 10(0,18) 11(0,20) 12(0,22) 13(0,24) 14(0,26) 15(0,28) 16(0,30) 17(0,32) 18(0,34) 19(0,36) 20(0,38) 21(0,40) 22(0,42) 23(0,44) 24(0,46) 25(0,48) 26(0,50) 27(0,52) 28(0,54) 29(0,56) 30(0,58) 31(0,60) 32(0,62) 33(0,64) 34(0,66) 35(0,68) 36(0,70) 37(0,72) 38(0,74) 39(0,76) 40(0,78)
Top Overlay:
  lines w0.2: -1.2,-1 1.25,-1 1.25,79 -1.2,79 -1.2,-1
3D body "pls-2mm.stp": height 5.5, standoff -2.5, extent -1.2,7 1.2,9
3D body "pls-2mm.stp": height 5.5, standoff -2.5, extent -1.2,5 1.2,7
3D body "pls-2mm.stp": height 5.5, standoff -2.5, extent -1.2,3 1.2,5
3D body "pls-2mm.stp": height 5.5, standoff -2.5, extent -1.2,1 1.2,3
3D body "pls-2mm.stp": height 5.5, standoff -2.5, extent -1.2,-1 1.2,1
3D body "pls-2mm.stp": height 5.5, standoff -2.5, extent -1.2,9 1.2,11
3D body "pls-2mm.stp": height 5.5, standoff -2.5, extent -1.2,11 1.2,13
3D body "pls-2mm.stp": height 5.5, standoff -2.5, extent -1.2,13 1.2,15
3D body "pls-2mm.stp": height 5.5, standoff -2.5, extent -1.2,15 1.2,17
3D body "pls-2mm.stp": height 5.5, standoff -2.5, extent -1.2,17 1.2,19
3D body "pls-2mm.stp": height 5.5, standoff -2.5, extent -1.2,19 1.2,21
3D body "pls-2mm.stp": height 5.5, standoff -2.5, extent -1.2,21 1.2,23
3D body "pls-2mm.stp": height 5.5, standoff -2.5, extent -1.2,23 1.2,25
3D body "pls-2mm.stp": height 5.5, standoff -2.5, extent -1.2,25 1.2,27
3D body "pls-2mm.stp": height 5.5, standoff -2.5, extent -1.2,27 1.2,29
3D body "pls-2mm.stp": height 5.5, standoff -2.5, extent -1.2,29 1.2,31
3D body "pls-2mm.stp": height 5.5, standoff -2.5, extent -1.2,31 1.2,33
3D body "pls-2mm.stp": height 5.5, standoff -2.5, extent -1.2,33 1.2,35
3D body "pls-2mm.stp": height 5.5, standoff -2.5, extent -1.2,35 1.2,37
3D body "pls-2mm.stp": height 5.5, standoff -2.5, extent -1.2,37 1.2,39
3D body "pls-2mm.stp": height 5.5, standoff -2.5, extent -1.2,39 1.2,41
3D body "pls-2mm.stp": height 5.5, standoff -2.5, extent -1.2,41 1.2,43
3D body "pls-2mm.stp": height 5.5, standoff -2.5, extent -1.2,43 1.2,45
3D body "pls-2mm.stp": height 5.5, standoff -2.5, extent -1.2,45 1.2,47
3D body "pls-2mm.stp": height 5.5, standoff -2.5, extent -1.2,47 1.2,49
3D body "pls-2mm.stp": height 5.5, standoff -2.5, extent -1.2,49 1.2,51
3D body "pls-2mm.stp": height 5.5, standoff -2.5, extent -1.2,51 1.2,53
3D body "pls-2mm.stp": height 5.5, standoff -2.5, extent -1.2,53 1.2,55
3D body "pls-2mm.stp": height 5.5, standoff -2.5, extent -1.2,55 1.2,57
3D body "pls-2mm.stp": height 5.5, standoff -2.5, extent -1.2,57 1.2,59
3D body "pls-2mm.stp": height 5.5, standoff -2.5, extent -1.2,59 1.2,61
3D body "pls-2mm.stp": height 5.5, standoff -2.5, extent -1.2,61 1.2,63
3D body "pls-2mm.stp": height 5.5, standoff -2.5, extent -1.2,63 1.2,65
3D body "pls-2mm.stp": height 5.5, standoff -2.5, extent -1.2,65 1.2,67
3D body "pls-2mm.stp": height 5.5, standoff -2.5, extent -1.2,67 1.2,69
3D body "pls-2mm.stp": height 5.5, standoff -2.5, extent -1.2,69 1.2,71
3D body "pls-2mm.stp": height 5.5, standoff -2.5, extent -1.2,71 1.2,73
3D body "pls-2mm.stp": height 5.5, standoff -2.5, extent -1.2,73 1.2,75
3D body "pls-2mm.stp": height 5.5, standoff -2.5, extent -1.2,75 1.2,77
3D body "pls-2mm.stp": height 5.5, standoff -2.5, extent -1.2,77 1.2,79

## SPN02SYBN-RC [mm]
Top Overlay:
  lines w0.1: 0,0 2,0 ; 0,1 0,1.5 2,1.5 2,1 ; -1,-1 3,-1 3,-0.9 3,1 -1,1 -1,0 -1,-1
3D body "jumper_akso-200_g.stp": height 7.45, standoff 3.95, extent -0.95,-0.95 2.95,0.95